# EAGLE library part 150353M153300 (library WL-SFTD)
WL-SFTD SMT Full-color Top LED Diffused Characteristics Industry standard size 3535 Matte and non-reflective surface High reliability Low energy consumtion Low current requirement MSL 5a Water-resistant IPx6 Applications Outdoor Full-Color Video Screen Decorative lighting Entertainment LED display screen Indicator Backlight <https://www.we-online.com/catalog/media/o135756v209%20Gruppe_WL-SFTD_1616_2022_2828_2828.jpg> Details see: www.we-online.com/en/components/products/WL-SFTD <www.we-online.com/catalog/WL-SFTD/?utm_source=eagle_model&utm_medium=description_link&utm_campaign=eisos_eagle> Updated by Ella Wu 2025-03-14 2025 (C) Würth Elektronik
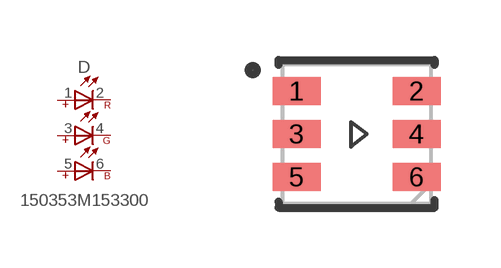
[diagram p1: symbol with the pads of 150353M153300; footprint 150353M153300]

Designator prefix D

## 150353M153300 (CHIP-TECHNOLOGY: AlInGaP + GaN; DATASHEET-URL: https://www.we-online.com/redexpert/spec/150353M153300?ae; DOMINANT-WAVELENGTH: 625nm@Red & 520nm@Green & 470nm@Blue; EMITTING-COLOR: Red & Green & Blue; FORWARD-VOLTAGE: 2V@Red & 3.2V@Green & 3.2V@Blue; HEIGHT: 2.8mm; LENGTH: 3.7mm; LUMINOUS-INTENSITY: 800nm@Red & 1900nm@Green & 400nm@Blue; MOUNT: SMT; PART-NUMBER: 150353M153300; PEAK-WAVELENGTH: 635nm@Red & 515nm@Green & 465nm@Blue; SIZE: 3535; VALUE: 150353M153300; VIEWING-ANGLE: 120°; WIDTH: 3.5mm)  [150353M153300]
1  1  pas
2  R  pas
3  3  pas
4  G  pas
5  5  pas
6  B  pas

## Footprint 150353M153300 (pad centres in mm)
WL-SFTD SMT Full-color Top LED Diffused Size: 3535, SMT, 6pins 3.7X3.5X2.8mm(LXWXH)
smd 1.2 x 0.7: 1 -1.5,1.075; 2 1.5,1.075; 3 -1.5,0; 4 1.5,0; 5 -1.5,-1.075; 6 1.5,-1.075